# Altium schematic symbol library SCH - LED - 0603 1615.SchLib: 1 symbol
Pins are listed as number, name and electrical type; pins without a type are passive.

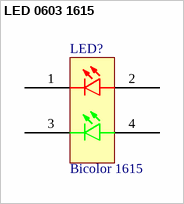
[diagram p0: symbol LED 0603 1615]

## LED 0603 1615
designator LED?, comment Bicolor 1615
SMD SMT Light Emitting Diode 1.6*0.8*0.6MM; ComponentLink1Description: Aliexpress; ComponentLink1URL: https://www.aliexpress.com/item/4001174921701.html?spm=a2g0o.order_list.0.0.12d31802vfu5Sp
footprint LED 0603 1615 BICOLOR (SMD SMT Light Emitting Diode 1.6*0.8*0.6MM)
pins: 1, 2, 3, 4